# Altium schematic symbol library IC_Analog.SchLib: 54 symbols
Pins are listed as number, name and electrical type; pins without a type are passive.

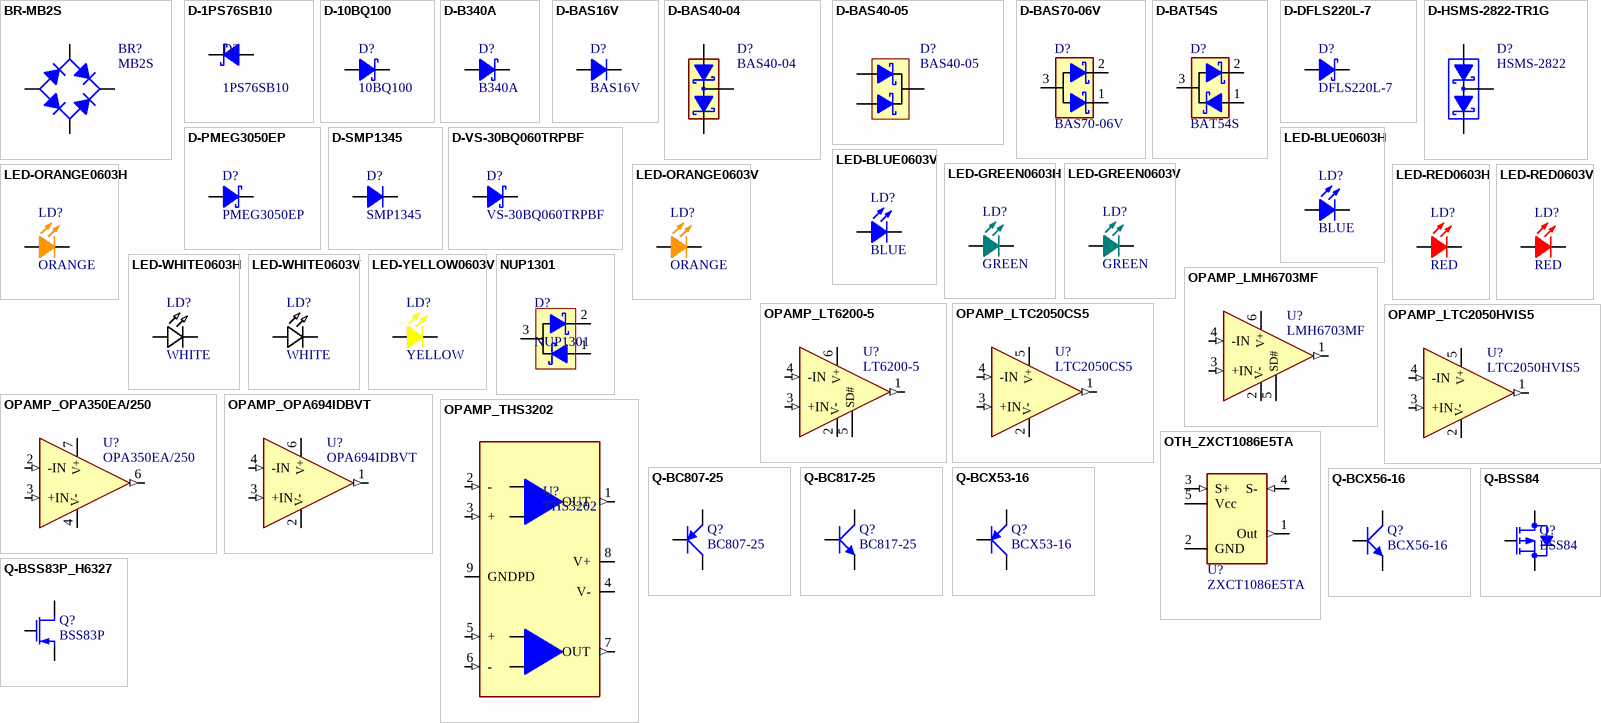
[diagram p0: symbols BR-MB2S to Q-BSS84]

## BR-MB2S
designator BR?, comment MB2S
Bridge rectifier 200V 0.5A; Manufacturer: Vishay; Tech: SMDR; Package: TO-269; Manufacturer No: MB2S; Supplier 1: Digi-Key; Supplier Part Number 1: MB2S-TPMSCT-ND; Supplier 2: Mouser; Supplier Part Number 2: 771-PUMB2115; Supplier 3: Newark; Supplier Part Number 3: 76K7620
signal-integrity model Model Name (Model Description)
footprint BRTO269AA (Bridge rectifier MBS)
pins: 1 AC1, 2 AC2, 3 +, 4 -

## D-1PS76SB10
designator D?, comment 1PS76SB10
Schottky diode SOD323 0.2A 30V 5ns 320mVf; Manufacturer: ON Semiconductor; Tech: SMDR; Package: SOD323; Manufacturer No: 1PS76SB10; Supplier 1: Mouser; Supplier Part Number 1: 771-1PS76SB10-T/R; Supplier 2: Newark; Supplier Part Number 2: 83H6419; Supplier 3: Digi-Key; Supplier Part Number 3: 568-3406-1-ND
signal-integrity model Model Name (Model Description)
footprint SOD323 (SOD323 diode)
pins: 1 C, 2 A

## D-10BQ100
designator D?, comment 10BQ100
Schottky diode 1A 100V; Manufacturer: Vishay; Tech: SMDR; Package: SMB; Manufacturer No: 10BQ100; Supplier 1: Newark; Supplier Part Number 1: 63J7997; Supplier 2: Digi-Key; Supplier Part Number 2: 10BQ100PBF-ND; Supplier 3: Mouser; Supplier Part Number 3: 844-10BQ100PBF
signal-integrity model Model Name (Model Description)
footprint DSMB-N (DIODE SMB normal)
pins: 1 C, 2 A

## D-B340A
designator D?, comment B340A
Schottky diode 3A 40V; Manufacturer: Vishay; Tech: SMDR; Package: D-SMA; Manufacturer No: B340A; Supplier 1: Newark; Supplier Part Number 1: 12T1465; Supplier 2: Digi-Key; Supplier Part Number 2: B340A-FDICT-ND; Supplier 3: Mouser; Supplier Part Number 3: 625-BD340A-E3/61T
signal-integrity model Model Name (Model Description)
footprint DSMA-N (DIODE SMA normal)
pins: 1 C, 2 A

## D-BAS16V
designator D?, comment BAS16V
General purpose diode 100V 150mA; Manufacturer: Vishay; Manufacturer No: BAS16-V; Tech: SMDR; Package: SOT23; Supplier 1: Mouser; Supplier Part Number 1: 78-BAS16-G3-08; Supplier 2: Newark; Supplier Part Number 2: 75R4926; Supplier 3: Digi-Key; Supplier Part Number 3: BAS16-E3-08CT-ND
signal-integrity model Model Name (Model Description)
footprint SOT23-1
pins: 1 A, 3 C

## D-BAS40-04
designator D?, comment BAS40-04
Dual schottky diode A-CA-C 40V 200mA; Manufacturer: Vishay; Tech: SMDR; Manufacturer No: BAS40-04; Package: SOT23; Supplier 1: Mouser; Supplier Part Number 1: 833-BAS40-04-TP; Supplier 2: Newark; Supplier Part Number 2: 75R4941; Supplier 3: Digi-Key; Supplier Part Number 3: BAS40-04TPMSCT-ND
pins: 1 A1, 2 C2, 3 C1A2

## D-BAS40-05
designator D?, comment BAS40-05
Dual schottky diode A-CC-A 40V 200mA; Manufacturer: Vishay; Tech: SMDR; Manufacturer No: BAS40-05; Package: SOT23; Supplier 1: Digi-Key; Supplier Part Number 1: BAS40-05TPMSCT-ND; Supplier 2: Newark; Supplier Part Number 2: 75R4943; Supplier 3: Mouser; Supplier Part Number 3: 78-BAS40-05-G3-18
signal-integrity model Model Name (Model Description)
footprint SOT23-1
pins: 1 A1, 2 A2, 3 C1C2

## D-BAS70-06V
designator D?, comment BAS70-06V
Dual schottky diode C-AA-C 70V  70mA; Manufacturer: Vishay; Manufacturer No: BAS70-06-V; Tech: SMDR; Package: SOT23; Supplier 1: Digi-Key; Supplier Part Number 1: BAS70-06-E3-08CT-ND; Supplier 2: Mouser; Supplier Part Number 2: 78-BAS70-06-G3-08
signal-integrity model Model Name (Model Description)
footprint SOT23-1
pins: 1 C1, 2 C2, 3 A1A2

## D-BAT54S
designator D?, comment BAT54S
Schottky Barier Dual Diodes A-CA-C; Manufacturer: Fairchild; Tech: SMDR; Manufacturer No: BAT54S; Package: SOT23-1; Supplier 1: Digi-Key; Supplier Part Number 1: BAT54SFSDKR-ND; Supplier 2: Mouser; Supplier Part Number 2: 512-BAT54S
footprint SOT23-1
pins: 1 C1, 2 C2, 3 A1A2

## D-DFLS220L-7
designator D?, comment DFLS220L-7
Schottky diode 2A 20V; Manufacturer: Diodes inc.; Tech: SMDR; Package: SMB; Manufacturer No: DFLS220L-7; Supplier 1: Mouser; Supplier Part Number 1: 621-DFLS220L-7; Supplier 2: Newark; Supplier Part Number 2: 85W3396; Supplier 3: Digi-Key; Supplier Part Number 3: DFLS220LDICT-ND
signal-integrity model Model Name (Model Description)
footprint PowerDI123 (2-Leads, Body 1,8x2,8mm (max), IPC Medium Density)
pins: 1 C, 2 A

## D-HSMS-2822-TR1G
designator D?, comment HSMS-2822
Surface Mount RF Schottky Barrier Diodes, Series Config.; Manufacturer: Avago; Manufacturer No: HSMS-2822-TR1G; Tech: SMDR; Package: SOT23; Supplier 1: Mouser; Supplier Part Number 1: 630-HSMS-2822-TR1G; Supplier 2: Digi-Key; Supplier Part Number 2: 516-1923-ND; Supplier 3: Newark; Supplier Part Number 3: 45T2337
footprint SOT23-1
pins: 1 A1, 2 C2, 3 C1A2

## D-PMEG3050EP
designator D?, comment PMEG3050EP
Schottky diode 6A 30V 500ns 0.36Vf; Manufacturer: NXP; Manufacturer No: PMEG3050EP,115; Tech: SMDR; Package: D-SMA; Supplier 1: Mouser; Supplier Part Number 1: 771-PMEG3050EP115; Supplier 2: Newark; Supplier Part Number 2: 85W3398; Supplier 3: Digi-Key; Supplier Part Number 3: 568-6753-6-ND
signal-integrity model Model Name (Model Description)
footprint SOD128 (2-Leads, Body 2.7x4.0mm (max), IPC Medium Density)
pins: 1 C, 2 A

## D-SMP1345
designator D?, comment SMP1345
RF PIN diode 3.0A 100V 20ns; Manufacturer: Skyworks; Manufacturer No: SMP1345-079LF; Tech: SMDR; Package: SC-79; Supplier: Digi-Key; Supplier 1: Mouser; Supplier Part Number 1: 873-SMP1345-079LF; Supplier 2: Digi-Key; Supplier Part Number 2: 863-1104-1-ND
signal-integrity model Model Name (Model Description)
footprint SC79 (PIN diode)
pins: 1 C, 2 A

## D-VS-30BQ060TRPBF
designator D?, comment VS-30BQ060TRPBF
Schottky diode 3A 60V 120pF; Manufacturer: Vishay; Tech: SMDR; Package: SMB; Manufacturer No: VS-30BQ060TRPBF; Supplier 1: Mouser; Supplier Part Number 1: 844-30BQ060TRPBF; Supplier 2: Digi-Key; Supplier Part Number 2: 30BQ060PBFCT-ND; Supplier 3: Newark; Supplier Part Number 3: 63J8037
signal-integrity model Model Name (Model Description)
footprint DO214AB (Diode SMA DO214AB)
pins: 1 C, 2 A

## LED-BLUE0603H
designator LD?, comment BLUE
LED blue 0603 side; Manufacturer: Avago; Manufacturer No: HSMR-C120; Tech: SMDR; Package: Led Chip 0603 Side; Supplier 1: Digi-Key; Supplier Part Number 1: 516-3072-1-ND; Supplier 2: Mouser; Supplier Part Number 2: 630-HSMR-C120
simulation model LED0 (Diode)
footprint LED0603HB (LED chip 0603 1.6x1.0x0.6mm horizontal Blue)
pins: 1 C, 2 A

## LED-BLUE0603V
designator LD?, comment BLUE
LED blue HSMB vertical 3.8V 20mA 6mcd 92mW; Manufacturer: Avago; Manufacturer No: HSMR-C190; Tech: SMDR; Package: Led Chip 0603; Supplier 1: Mouser; Supplier Part Number 1: 630-HSMR-C190; Supplier 2: Digi-Key; Supplier Part Number 2: 516-2502-1-ND
simulation model LED0 (Diode)
footprint LEDBLUEC190 (LED chip C190 1.6x0.8x0.8mm vertical)
pins: 1 C, 2 A

## LED-GREEN0603H
designator LD?, comment GREEN
LED green 0603 side; Manufacturer: Avago; Manufacturer No: HSME-C120; Tech: SMDR; Package: Led Chip 0603 Side; Supplier 1: Mouser; Supplier Part Number 1: 630-HSME-C120; Supplier 2: Newark; Supplier Part Number 2: 83H6802; Supplier 3: Digi-Key; Supplier Part Number 3: HSME-C120-ND
simulation model LED0 (Diode)
footprint LED0603HG (LED chip 0603 1.6x1.0x0.6mm horizontal Green)
pins: 1 C, 2 A

## LED-GREEN0603V
designator LD?, comment GREEN
LED green HSMG vertical 2.6V 20mA 15mcd 52mW; Manufacturer: Avago; Manufacturer No: HSMG-C190; Tech: SMDR; Package: Led Chip 0603; Supplier 1: Mouser; Supplier Part Number 1: 630-HSMG-C190; Supplier 2: Digi-Key; Supplier Part Number 2: 516-1425-1-ND; Supplier 3: Newark; Supplier Part Number 3: 40K0122
simulation model LED0 (Diode)
footprint LEDGREENC190 (LED chip C190 1.6x0.8x0.8mm vertical)
pins: 1 C, 2 A

## LED-ORANGE0603H
designator LD?, comment ORANGE
LED orange 0603 side; Manufacturer: Avago; Manufacturer No: HSML-C120; Tech: SMDR; Package: Led Chip 0603 Side; Supplier 1: Digi-Key; Supplier Part Number 1: 516-3153-1-ND; Supplier 2: Mouser; Supplier Part Number 2: 630-HSML-C120
simulation model LED0 (Diode)
footprint LED0603HO (LED chip 0603 1.6x1.0x0.6mm horizontal Orange)
pins: 1 C, 2 A

## LED-ORANGE0603V
designator LD?, comment ORANGE
LED orange 0603 vertical; Manufacturer: Avago; Manufacturer No: HSMD-C190; Tech: SMDR; Package: Led Chip 0603 Vertical; Supplier 1: Digi-Key; Supplier Part Number 1: 516-2489-1-ND; Supplier 2: Mouser; Supplier Part Number 2: 630-HSMD-C190; Supplier 3: Newark; Supplier Part Number 3: 98B5046
simulation model LED0 (Diode)
footprint LEDORANGEC190 (LED chip C190 1.6x0.8x0.8mm vertical orange)
pins: 1 C, 2 A

## LED-RED0603H
designator LD?, comment RED
LED red 0603 side; Manufacturer: Avago; Manufacturer No: HSMC-C120; Tech: SMDR; Package: Led Chip 0603 Side; Supplier 1: Mouser; Supplier Part Number 1: 630-HSMC-C120; Supplier 2: Digi-Key; Supplier Part Number 2: 516-2824-1-ND
simulation model LED0 (Diode)
footprint LED0603HR (LED chip 0603 1.6x1.0x0.6mm horizontal Red)
pins: 1 C, 2 A

## LED-RED0603V
designator LD?, comment RED
LED red HSMC vertical 2.4V 25mA 90mcd 60mW; Manufacturer: Avago; Manufacturer No: HSMC-C190; Tech: SMDR; Package: Led Chip 0603; Supplier 1: Mouser; Supplier Part Number 1: 630-HSMC-C190; Supplier 2: Digi-Key; Supplier Part Number 2: 516-1421-1-ND; Supplier 3: Newark; Supplier Part Number 3: 98B5041
simulation model LED0 (Diode)
footprint LEDREDC190 (LED chip C190 1.6x0.8x0.8mm vertical)
pins: 1 C, 2 A

## LED-WHITE0603H
designator LD?, comment WHITE
LED white 0603 side; Manufacturer: Avago; Manufacturer No: HSMW-C120; Tech: SMDR; Package: Led Chip 0603 Side; Supplier 1: Mouser; Supplier Part Number 1: 630-HSMW-C120; Supplier 2: Digi-Key; Supplier Part Number 2: HSMW-C120-ND
simulation model LED0 (Diode)
footprint LED0603HW (LED chip 0603 1.6x1.0x0.6mm horizontal White)
pins: 1 C, 2 A

## LED-WHITE0603V
designator LD?, comment WHITE
LED white HSMW vertical 3.6V 20mA 200mcd 78mW; Manufacturer: Avago; Manufacturer No: HSMW-C191; Tech: SMDR; Package: Led Chip 0603; Supplier 1: Digi-Key; Supplier Part Number 1: 516-2236-1-ND; Supplier 2: Mouser; Supplier Part Number 2: 630-HSMW-C191
simulation model LED0 (Diode)
footprint LEDWHITEC191 (LED chip C190 1.6x0.8x0.6mm vertical)
pins: 1 C, 2 A

## LED-YELLOW0603V
designator LD?, comment YELLOW
LED yellow HSMY vertical 2.6V 20mA 8mcd 52mW; Manufacturer: Avago; Manufacturer No: HSMY-C190; Tech: SMDR; Package: Led Chip 0603; Supplier 1: Digi-Key; Supplier Part Number 1: 516-1424-1-ND; Supplier 2: Newark; Supplier Part Number 2: 40K0152; Supplier 3: Mouser; Supplier Part Number 3: 630-HSMY-C190
simulation model LED0 (Diode)
footprint LEDYELLOWC190 (LED chip C190 1.6x0.8x0.8mm vertical)
pins: 1 C, 2 A

## NUP1301
designator D?
Low Cap. (0.9pF) Diode Array for ESD Protection in a Single Data Line; Manufacturer: On Semiconductor; Manufacturer No: NUP1301ML3T1G; Tech: SMDR; Package: SOT23; Supplier 1: Newark; Supplier Part Number 1: 10N9593; Supplier 2: Mouser; Supplier Part Number 2: 863-SZNUP1301ML3T1G; Supplier 3: Digi-Key; Supplier Part Number 3: NUP1301ML3T1GOSCT-ND
signal-integrity model Model Name (Model Description)
footprint SOT23-1
pins: 1 C1, 2 C2, 3 A1A2

## OPAMP_LMH6703MF
designator U?, comment LMH6703MF
1.2 GHz Current-Feedback Amplifier; Manufacturer: Texas Instruments; Manufacturer No: LMH6703MF/NOPB; Tech: SMDR; Package: SOT23-6; Supplier 1: Newark; Supplier Part Number 1: 65K5777; Supplier 2: Digi-Key; Supplier Part Number 2: LMH6703MF/NOPBCT-ND; Supplier 3: Mouser; Supplier Part Number 3: 926-LMH6703MF/NOPB
footprint SOT23-6
pins: 1 OUT (out), 2 V- (power), 3 +IN (in), 4 -IN (in), 5 ~{SD} (power), 6 V+ (power)
text: SD#

## OPAMP_LT6200-5
designator U?, comment LT6200-5
1.2 GHz Current-Feedback Amplifier; Manufacturer: Linear Technology; Manufacturer No: LT6200CS6-5#TRMPBF; Tech: SMDR; Package: SOT23-6; Supplier 1: Newark; Supplier Part Number 1: 57M9146; Supplier 2: Digi-Key; Supplier Part Number 2: LT6200CS6-5#TRMPBFDKR-ND
footprint SOT23-6
pins: 1 OUT (out), 2 V- (power), 3 +IN (in), 4 -IN (in), 5 ~{SD} (power), 6 V+ (power)
text: SD#

## OPAMP_LTC2050CS5
designator U?, comment LTC2050CS5
Zero-Drift Operational Amplifier; Manufacturer: Linear Technology; Manufacturer No: LTC2050CS5#TRMPBF; Tech: SMDR; Package: SOT23-5; Supplier 1: Newark; Supplier Part Number 1: 62X8173; Supplier 2: Digi-Key; Supplier Part Number 2: LTC2050CS5#TRMPBFCT-ND
footprint SOT23-5
pins: 1 OUT (out), 2 V- (power), 3 +IN (in), 4 -IN (in), 5 V+ (power)

## OPAMP_LTC2050HVIS5
designator U?, comment LTC2050HVIS5
Zero-Drift Operational Amplifier; Manufacturer: Linear Technology; Manufacturer No: LTC2050HVIS5#TRMPBF; Tech: SMDR; Package: SOT23-5; Supplier 1: Newark; Supplier Part Number 1: 59M8269; Supplier 2: Digi-Key; Supplier Part Number 2: LTC2050HVIS5#TRMPBFCT-ND
footprint SOT23-5
pins: 1 OUT (out), 2 V- (power), 3 +IN (in), 4 -IN (in), 5 V+ (power)

## OPAMP_OPA350EA/250
designator U?, comment OPA350EA/250
Single-Supply, Rail-to-Rail, High Cload OpAmp; Manufacturer: Texas Instruments; Tech: SMDR; Manufacturer No: OPA350EA/250; Package: MSOP8; Supplier 1: Newark; Supplier Part Number 1: 75C4899; Supplier 2: Digi-Key; Supplier Part Number 2: OPA350EADKR-ND; Supplier 3: Mouser; Supplier Part Number 3: 595-OPA350EA/250
footprint MSOP8N
pins: 2 -IN (in), 3 +IN (in), 4 V- (power), 6 OUT (out), 7 V+ (power)

## OPAMP_OPA694IDBVT
designator U?, comment OPA694IDBVT
1.5 GHz Low-Power, Current-Feedback Amplifier; Manufacturer: Texas Instruments; Tech: SMDR; Manufacturer No: OPA694IDBVT; Package: SOT23-5; Supplier 1: Newark; Supplier Part Number 1: 37X6890; Supplier 2: Digi-Key; Supplier Part Number 2: 296-17503-1-ND; Supplier 3: Mouser; Supplier Part Number 3: 595-OPA694IDBVT
footprint SOT23-5
pins: 1 OUT (out), 2 V- (power), 3 +IN (in), 4 -IN (in), 6 V+ (power)

## OPAMP_THS3202
designator U?, comment THS3202
2-GHz, Dual Current-Feedback Amplifiers; Manufacturer: Texas Instruments; Manufacturer No: THS3202DGN; Tech: SMDR; Package: MSOP8; Supplier 1: Mouser; Supplier Part Number 1: 595-THS3202DGN; Supplier 2: Newark; Supplier Part Number 2: 02E7109; Supplier 3: Digi-Key; Supplier Part Number 3: 296-13656-5-ND
footprint MSOP8G (TSOP, 8-Leads, Body 3,1x3,1mm (max), Pitch 0,65mm, IPC High Density)
pins: 1 OUT (out), 2 - (in), 3 + (in), 4 V- (power), 5 + (in), 6 - (in), 7 OUT (out), 8 V+ (power), 9 GNDPD (power)

## OTH_ZXCT1086E5TA
designator U?, comment ZXCT1086E5TA
Precision high side current monitor, voltage output SOT23-5; Manufacturer: Diodes Inc; Tech: SMDR; Manufacturer No: ZXCT1086E5TA; Package: SOT23-5; Supplier 1: Digi-Key; Supplier Part Number 1: ZXCT1086E5TADKR-ND; Supplier 2: Mouser; Supplier Part Number 2: 522-ZXCT1086E5TA
footprint SOT23-5
pins: 1 Out (out), 2 GND (power), 3 S+ (in), 4 S- (in), 5 Vcc (power)

## Q-BC807-25
designator Q?, comment BC807-25
PNP transistor 45V 0.5A; Manufacturer: NXP; Tech: SMDR; Package: SOT23; Manufacturer No: BC807-25; Supplier 1: Mouser; Supplier Part Number 1: 771-BC807-25-T/R; Supplier 2: Digi-Key; Supplier Part Number 2: 568-4864-1-ND; Supplier 3: Newark; Supplier Part Number 3: 87W9076
footprint SOT23-1
pins: 1 B, 2 E, 3 C

## Q-BC817-25
designator Q?, comment BC817-25
NPN transistor 45V 0.8A; Manufacturer: ON Semiconductor; Manufacturer No: BC817-25LT1G; Tech: SMDR; Package: SOT23; Supplier 1: Mouser; Supplier Part Number 1: 863-BC817-25LT1G; Supplier 2: Digi-Key; Supplier Part Number 2: BC817-25LT1GOSCT-ND
footprint SOT23-1
pins: 1 B, 2 E, 3 C

## Q-BCX53-16
designator Q?, comment BCX53-16
PNP transistor 80V 1A 1.3W; Manufacturer: NXP; Tech: SMDR; Package: SOT89; Manufacturer No: BCX53-16; Supplier 1: Mouser; Supplier Part Number 1: 771-BCX53-16-T/R; Supplier 2: Newark; Supplier Part Number 2: 75R0698; Supplier 3: Digi-Key; Supplier Part Number 3: 568-1641-1-ND
footprint SOT89-1 (SOT-89; Body 4.6 x 4.25 mm, inc. leads (LxW max))
pins: 1 B, 2 C, 3 E

## Q-BCX56-16
designator Q?, comment BCX56-16
NPN transistor 80V 1A 1.3W; Manufacturer: NXP; Tech: SMDR; Package: SOT89; Manufacturer No: BCX56-16; Supplier 1: Newark; Supplier Part Number 1: 75R0706; Supplier 2: Mouser; Supplier Part Number 2: 771-BCX56-16-T/R; Supplier 3: Digi-Key; Supplier Part Number 3: 568-1642-1-ND
footprint SOT89-1 (SOT-89; Body 4.6 x 4.25 mm, inc. leads (LxW max))
pins: 1 B, 2 C, 3 E

## Q-BSS83P_H6327
designator Q?, comment BSS83P
P-Channel MOSFET 60V 0.33A 2R; Manufacturer: Infineon; Manufacturer No: BSS83P H6327; Tech: SMDR; Package: SOT23; Supplier 1: Mouser; Supplier Part Number 1: 726-BSS83PH6327XTSA1; Supplier 2: Newark; Supplier Part Number 2: 87X8605; Supplier 3: Digi-Key; Supplier Part Number 3: BSS83P H6327CT-ND
simulation model PMOS (MOSFET-P)
footprint SOT23-1
pins: 1 G, 2 S, 3 D

## Q-BSS84
designator Q?, comment BSS84
P-Channel MOSFET 50V 0.13A 10R; Manufacturer: NXP; Tech: SMDR; Package: SOT23; Manufacturer No: BSS84; Supplier 1: Newark; Supplier Part Number 1: 75R4702; Supplier 2: Mouser; Supplier Part Number 2: 771-BSS84-T/R; Supplier 3: Digi-Key; Supplier Part Number 3: BSS84CT-ND
simulation model PMOS (MOSFET-P)
footprint SOT23-1
pins: 1 G, 2 S, 3 D

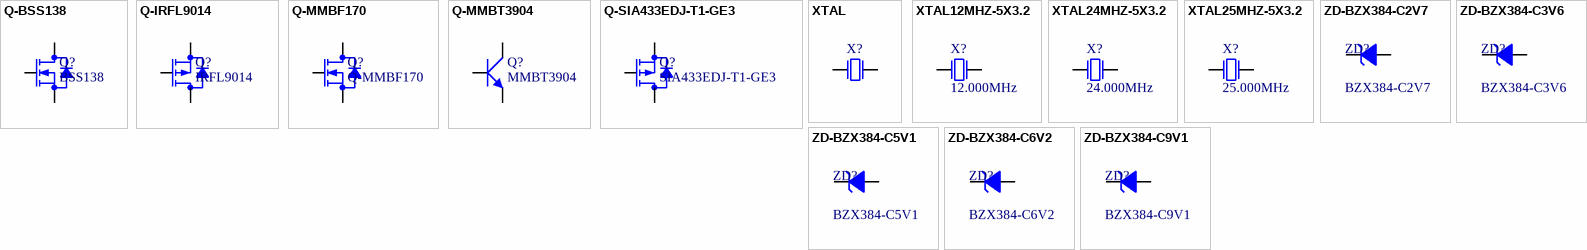
[diagram p1: symbols Q-BSS138 to ZD-BZX384-C9V1]

## Q-BSS138
designator Q?, comment BSS138
N-Channel MOSFET 50V 0.22A 6R; Manufacturer: Fairchild; Tech: SMDR; Package: SOT23; Manufacturer No: BSS138; Supplier 1: Digi-Key; Supplier Part Number 1: BSS138CT-ND; Supplier 2: Newark; Supplier Part Number 2: 58K8769; Supplier 3: Mouser; Supplier Part Number 3: 512-BSS138
simulation model NMOS (MOSFET-N)
footprint SOT23-1
pins: 1 G, 2 S, 3 D

## Q-IRFL9014
designator Q?, comment IRFL9014
P-Channel MOSFET 60V 1.8A 0.5R; Manufacturer: Vishay; Manufacturer No: IRFL9014TRPBF; Tech: SMDR; Package: SOT223; Supplier 1: Mouser; Supplier Part Number 1: 844-IRFL9014TRPBF; Supplier 2: Digi-Key; Supplier Part Number 2: IRFL9014PBFCT-ND
simulation model PMOS (MOSFET-P)
footprint SOT223
pins: 1 G, 2 D, 3 S, 4 D

## Q-MMBF170
designator Q?
N-Channel MOSFET 60V, 0.5A, 0.3W; Manufacturer: ON Semiconductor; Tech: SMDR; Package: SOT23; Manufacturer No: MMBF170; Supplier 1: Mouser; Supplier Part Number 1: 863-MMBF170LT1G; Supplier 2: Newark; Supplier Part Number 2: 88H4781; Supplier 3: Digi-Key; Supplier Part Number 3: MMBF170LT1GOSCT-ND
simulation model NMOS (MOSFET-N)
footprint SOT23-1
pins: 1 G, 2 S, 3 D

## Q-MMBT3904
designator Q?, comment MMBT3904
NPN transistor 40V 0.2A 0.35W; Manufacturer: Fairchild; Tech: SMDR; Package: SOT23; Manufacturer No: MMBT3904; Supplier 1: Mouser; Supplier Part Number 1: 863-MMBT3904LT1G; Supplier 2: Newark; Supplier Part Number 2: 83H7337; Supplier 3: Digi-Key; Supplier Part Number 3: MMBT3904-FDICT-ND
footprint SOT23-1
pins: 1 B, 2 E, 3 C

## Q-SIA433EDJ-T1-GE3
designator Q?, comment SIA433EDJ-T1-GE3
P-Channel MOSFET 20V 12A 0.06R; Manufacturer: Vishay; Tech: SMDR; Package: SC70-61; Manufacturer No: SIA433EDJ-T1-GE3; Supplier 1: Mouser; Supplier Part Number 1: 781-SIA433EDJ-GE3; Supplier 2: Newark; Supplier Part Number 2: 79R5403; Supplier 3: Digi-Key; Supplier Part Number 3: SIA433EDJ-T1-GE3CT-ND
simulation model PMOS (MOSFET-P)
footprint SC70-6L (5-Leads, Body 2,05x2,05mm (max), Pitch 0,65mm, IPC Medium Density)
pins: 1 D, 2 D, 3 G, 4 S, 5 D, 6 D

## XTAL
designator X?
Crystal Oscillator; Sort: 380; Tech: SMDR; Price: 0
footprint R38 (Crystal, Thru-Hole; 2 Leads; Body 3.1 x 8.2 mm (Dia.xH))
simulation model XTAL (Spice Subcircuit)
pins: 1 OSC1, 2 OSC2

## XTAL12MHZ-5X3.2
designator X?, comment 12.000MHz
Quartz crystal smd 5x3.2mm 10ppm; Manufacturer: Abracon; Manufacturer No: ABM3B-12.000MHZ-10-1-U-T; Tech: SMDR; Package: Crystal 5x3.2mm; Supplier 1: Digi-Key; Supplier Part Number 1: 300-8197-1-ND; Supplier 2: Newark; Supplier Part Number 2: 96J0265; Supplier 3: Mouser; Supplier Part Number 3: 815-ABM3B-12-T
simulation model XTAL (Spice Subcircuit)
footprint Model Name (Footprint not found)
footprint Q-5x3.2 (Quartz crystal 5x3.2x0.8mm)
pins: 1 OSC1, 3 OSC2

## XTAL24MHZ-5X3.2
designator X?, comment 24.000MHz
Quartz crystal smd 5x3.2mm 30ppm; Manufacturer: Fox; Manufacturer No: FQ5032B-24.000; Tech: SMDR; Package: Crystal 5x3.2mm; Supplier 1: Digi-Key; Supplier Part Number 1: 631-1026-1-ND; Supplier 2: Newark; Supplier Part Number 2: 61T5357; Supplier 3: Mouser; Supplier Part Number 3: N/A
simulation model XTAL (Spice Subcircuit)
footprint Model Name (Footprint not found)
footprint Q-5x3.2 (Quartz crystal 5x3.2x0.8mm)
pins: 1 OSC1, 3 OSC2

## XTAL25MHZ-5X3.2
designator X?, comment 25.000MHz
Quartz crystal smd 5x3.2mm 50ppm; Manufacturer: CTS; Manufacturer No: 405C35B25M00000; Tech: SMDR; Package: Crystal 5x3.2mm; Supplier 1: Mouser; Supplier Part Number 1: 774-405C35B25M0; Supplier 2: Digi-Key; Supplier Part Number 2: CTX652CT-ND
simulation model XTAL (Spice Subcircuit)
footprint Model Name (Footprint not found)
footprint Q-5x3.2 (Quartz crystal 5x3.2x0.8mm)
pins: 1 OSC1, 3 OSC2

## ZD-BZX384-C2V7
designator ZD?, comment BZX384-C2V7
Zener diode 300mW SOD323; Manufacturer: NXP; Manufacturer No: BZX384-B2V7; Tech: SMDR; Package: SOD323; Supplier 1: Mouser; Supplier Part Number 1: 771-BZX384-B2V7-T/R; Supplier 2: Digi-Key; Supplier Part Number 2: 568-3820-1-ND
footprint SOD323 (SOD323 diode)
pins: 1 C, 2 A

## ZD-BZX384-C3V6
designator ZD?, comment BZX384-C3V6
Zener diode 300mW SOD323; Manufacturer: NXP; Tech: SMDR; Package: SOD323; Manufacturer No: BZX384-C3V6; Supplier 1: Mouser; Supplier Part Number 1: 771-BZX384-C3V6115; Supplier 2: Digi-Key; Supplier Part Number 2: 568-8044-1-ND; Supplier 3: Newark; Supplier Part Number 3: 79R1935
footprint SOD323 (SOD323 diode)
pins: 1 C, 2 A

## ZD-BZX384-C5V1
designator ZD?, comment BZX384-C5V1
Zener diode 300mW SOD323; Manufacturer: NXP; Tech: SMDR; Package: SOD323; Manufacturer No: BZX384-C5V1; Supplier 1: Newark; Supplier Part Number 1: 79R1945; Supplier 2: Digi-Key; Supplier Part Number 2: 568-8045-1-ND; Supplier 3: Mouser; Supplier Part Number 3: 771-BZX384-C5V1115
footprint SOD323 (SOD323 diode)
pins: 1 C, 2 A

## ZD-BZX384-C6V2
designator ZD?, comment BZX384-C6V2
Zener diode 300mW SOD323; Manufacturer: NXP; Tech: SMDR; Package: SOD323; Manufacturer No: BZX384-C6V2; Supplier 1: Newark; Supplier Part Number 1: 93X4086; Supplier 2: Digi-Key; Supplier Part Number 2: 568-8046-1-ND; Supplier 3: Mouser; Supplier Part Number 3: 771-BZX384-C6V2115
footprint SOD323 (SOD323 diode)
pins: 1 C, 2 A

## ZD-BZX384-C9V1
designator ZD?, comment BZX384-C9V1
Zener diode 300mW SOD323; Manufacturer: NXP; Tech: SMDR; Package: SOD323; Manufacturer No: BZX384-C9V1; Supplier 1: Mouser; Supplier Part Number 1: 771-BZX384-C9V1115; Supplier 2: Newark; Supplier Part Number 2: 79R1956; Supplier 3: Digi-Key; Supplier Part Number 3: 568-8049-1-ND
footprint SOD323 (SOD323 diode)
pins: 1 C, 2 A